# Altium schematic symbol library Buttons.SchLib: 2 symbols
Pins are listed as number, name and electrical type; pins without a type are passive.

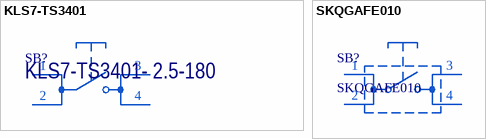
[diagram p0: symbols KLS7-TS3401 to SKQGAFE010]

## KLS7-TS3401
designator SB?, comment KLS7-TS3401- 2.5-180
Tact Button SMD 4х3х2.5mm, KLS7-TS3401; Manufacturer: KLS; ItemType: Mechnical; PartNumber: KLS7-TS3401- 2.5-180; ItemSubType: Button; Mounting: SMD
footprint KLS7-TS3401 (Tact button)
pins: 1, 2, 3, 4

## SKQGAFE010
designator SB?
Low-Profile Tactile Switch MSLPT 0.98N; Manufacturer: Alpsalpine; ItemType: Mechnical; ItemSubType: Button; PartNumber: SKQGAFE010; Mounting: SMD
footprint SKQGAFE (5.2mm Square Low-profile TACT Switch)
pins: 1, 2, 3, 4